# Altium integrated library B1047AS-471M_P3.IntLib: 1 symbol
Pins are listed as number, name and electrical type; pins without a type are passive.

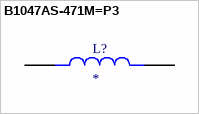
[diagram p0: symbol B1047AS-471M=P3]

## B1047AS-471M=P3
designator L?
Inductor Power Shielded Wirewound 220uH 20% 100KHz Ferrite 470mA 1.1Ohm DCR 2929 T/R; MP: B1047AS-471M=P3; Package: None; Price: None; Value: *; Availability: Unavailable
footprint IND_B1047AS-471M=P3
pins: 1, 2